# EAGLE library part MS561101BA03-50 (library nose-cone)
BAROMETRIC PRESSURE SENSOR
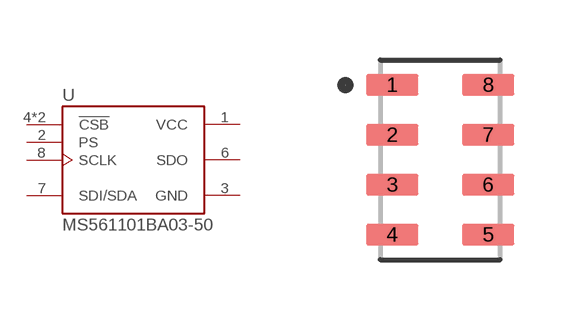
[diagram p4: symbol with the pads of SON125P500X300X100-8N; footprint SON125P500X300X100-8N]

Designator prefix U

## MS561101BA03-50 (AVAILABILITY: Unavailable; COMMENT: MS561101BA03-50; DESCRIPTION: Barometric Pressure Sensor; EU_ROHS_COMPLIANCE: Compliant; MF: TE Connectivity; MP: MS561101BA03-50; PACKAGE: SMD-8 TE Connectivity; PRICE: None; TE_PURCHASE_URL: https://www.te.com/usa-en/product-MS561101BA03-50.html?te_bu=Cor&te_type=disp&te_campaign=seda_glo_cor-seda-global-disp-prtnr-fy19-seda-model-bom-cta_sma-317_1&elqCampaignId=32493)  [SON125P500X300X100-8N]
1  VCC  pwr
2  PS  in
3  GND  pwr
4  !CSB  in
5  !CSB  in
6  SDO  out
7  SDI/SDA
8  SCLK  in

## Footprint SON125P500X300X100-8N (pad centres in mm)
smd 1.31 x 0.53: 1 -1.2,1.875; 2 -1.2,0.625; 3 -1.2,-0.625; 4 -1.2,-1.875; 5 1.2,-1.875; 6 1.2,-0.625; 7 1.2,0.625; 8 1.2,1.875